# Altium schematic symbol library Flash.SchLib: 2 symbols
Pins are listed as number, name and electrical type; pins without a type are passive.

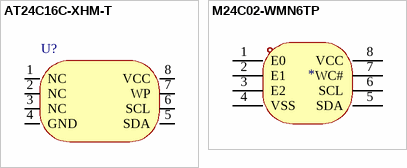
[diagram p0: symbols AT24C16C-XHM-T to M24C02-WMN6TP]

## AT24C16C-XHM-T
designator U?  (value not drawn)
存储器接口类型:I2C;存储器容量:16Kb (2K x 8);工作电压:1.7V ~ 5.5V;; Manufacturer: MICROCHIP(美国微芯); Add into BOM: yes; Memory Format: EEPROM; Memory Interface: I2C; Name: AT24C16C-XHM-T; Symbol: AT24C16C-XHM-T; Device: AT24C16C-XHM-T; LCSC Part Name: AT24C16C-XHM-T; Supplier Part: C112954; Manufacturer Part: AT24C16C-XHM-T; Supplier Footprint: TSSOP-8; JLCPCB Part Class: 扩展库; Datasheet: https://atta.szlcsc.com/upload/public/pdf/source/20170601/1496285783851.pdf; Supplier: LCSC; Convert to PCB: yes; Memory Size: 16Kb (2K x 8); Voltage - Supply: 1.7V ~ 5.5V
footprint TSSOP-8_L4.4-W3.0-P0.65-LS6.4-BL - duplicate
pins: 1 NC, 2 NC, 3 NC, 4 GND, 5 SDA, 6 SCL, 7 WP, 8 VCC

## M24C02-WMN6TP
designator U??
Symbol: M24C02-WMN6TP
footprint SOIC-8_L4.9-W3.9-P1.27-LS6.0-BL
pins: 1 E0, 2 E1, 3 E2, 4 VSS, 5 SDA, 6 SCL, 7 WC#, 8 VCC